# Altium schematic symbol library HY2210-CB.SchLib: 1 symbol
Pins are listed as number, name and electrical type; pins without a type are passive.

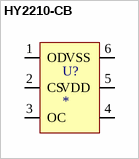
[diagram p0: symbol HY2210-CB]

## HY2210-CB
designator U?
footprint HY2213
pins: 1 OD, 2 CS, 3 OC, 4, 5 VDD, 6 VSS